# Altium footprint library st_lga-14l.PcbLib: 1 footprints
Each footprint in its own frame and in the unit in brackets; x right, y up, seen from the top. Pads: shape width x height; smd on the part's side, far side on the other; paste and mask are expansions set on the pad; w line width, h text height; cw(c..) or ccw(c..) is an arc to the next point about the centre after c.
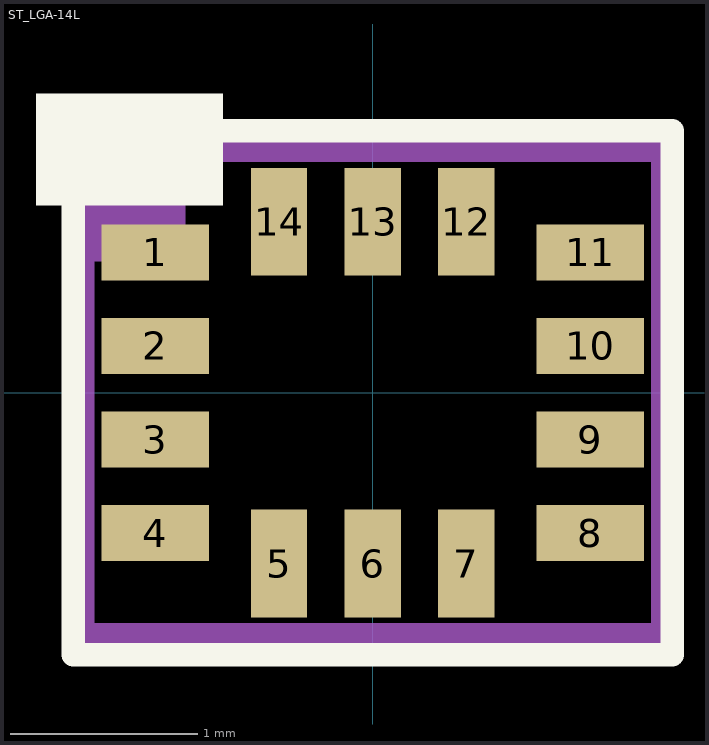
[diagram p0: the footprint, top view; thin cyan lines are the x and y axes]

## ST_LGA-14L [mm]
height 0.86
pads (14):
  rect 0.575x0.3 smd: 1(-1.162,0.75) 2(-1.162,0.25) 3(-1.162,-0.25) 4(-1.162,-0.75) 8(1.162,-0.75) 9(1.162,-0.25) 10(1.162,0.25) 11(1.162,0.75)
  rect 0.3x0.575 smd: 5(-0.5,-0.913) 6(0,-0.913) 7(0.5,-0.913) 12(0.5,0.913) 13(0,0.913) 14(-0.5,0.913)
Top Overlay:
  rectangle: -1.8,1 -0.8,1.6
  lines w0.127: -1.6,-1.4 -1.6,1.4 1.6,1.4 1.6,-1.4 -1.6,-1.4
Top Courtyard:
  rectangle: -1.549,0.7 -1,1.295
  lines w0.127: -1.549,-1.295 -1.549,1.295 1.549,1.295 1.549,-1.295 -1.549,-1.295
3D body "LGA-14L_2P5X3X0P83_STM.step": height 0.87, standoff 0, extent -1.549,-1.295 1.549,1.295